# EAGLE library part BV87 (library trafo)
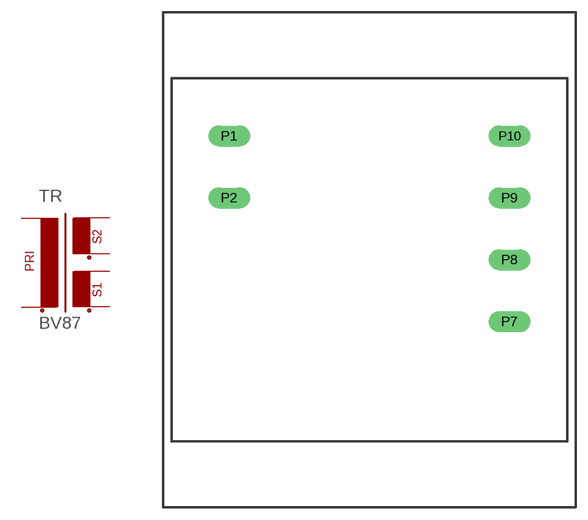
[diagram p1: symbol with the pads of BV87; footprint BV87]

Designator prefix TR

## BV87  [BV87]
P1  1  pas
P2  2  pas
P7  3  pas
P8  4  pas
P9  5  pas
P10  6  pas

## Footprint BV87 (pad centres in mm)
drill 1.2 pad 2.54 long: P1 -17,15; P2 -17,7.5; P7 17,-7.5; P8 17,0; P9 17,7.5; P10 17,15